# EAGLE library part INA199B2 (library MCE_Sensores)
INA199-Q1 Automotive, 26-V, Bidirectional, Zero-Drift, Low- or High-Side, Voltage-Output, Current-Shunt Monitor
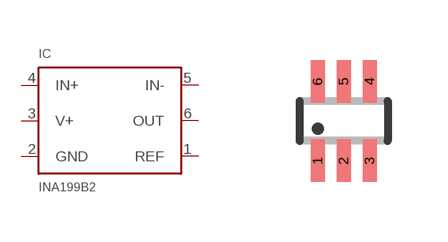
[diagram p1: symbol with the pads of SC70-6L; footprint SC70-6L]

Designator prefix IC

## INA199B2  [SC70-6L]
1  REF  in
2  GND  pwr
3  V+  pwr
4  IN+  in
5  IN-  in
6  OUT  out

## Footprint SC70-6L (pad centres in mm)
SC-70 Package
smd 0.35 x 1.067: 1 -0.65,-0.991; 2 0,-0.991; 3 0.65,-0.991; 4 0.65,0.991; 5 0,0.991; 6 -0.65,0.991